# EAGLE library part USB (library connectors)
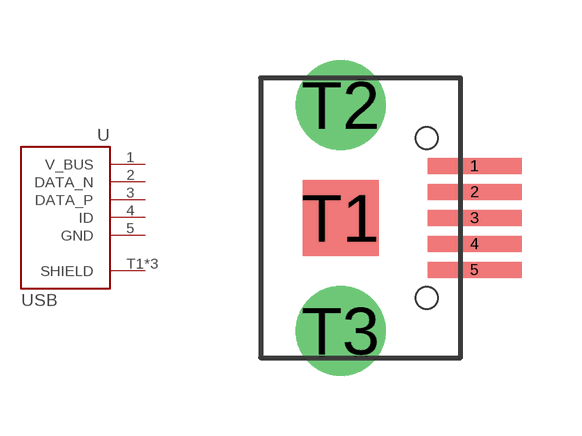
[diagram p1: symbol with the pads of MICRO-5P-5.9; footprint MICRO-5P-5.9]

Designator prefix -

## USBMICRO-5P-5.9  [MICRO-5P-5.9]
1  V_BUS
2  DATA_N
3  DATA_P
4  ID
5  GND
T1  SHIELD
T2  SHIELD
T3  SHIELD

## Footprint MICRO-5P-5.9 (pad centres in mm)
Datasheet <https://datasheet.lcsc.com/szlcsc/Jing-Extension-of-the-Electronic-Co-LCSC-micro-5P-5-9-M-High-temperature_C40939.pdf> AliExpress <https://de.aliexpress.com/item/100PCS-New-high-Quality-Micro-USB-Connector-Jack-Female-Type-5Pin-SMT-Tail-Charging-socket-PCB/32764345954.html>
smd 2.35 x 0.4: 1 3.35,1.3; 2 3.35,0.65; 3 3.35,0; 4 3.35,-0.65; 5 3.35,-1.3
smd 1.9 x 1.9: T1 0,0
drill 1.5: T2 0,2.825; T3 0,-2.825
hole 0.55 at 2.15,2
hole 0.55 at 2.15,-2